# Altium footprint library PCB1.PcbLib: 33 footprints (part 2 of 3)
Each footprint in its own frame and in the unit in brackets; x right, y up, seen from the top. Pads: shape width x height; smd on the part's side, far side on the other; paste and mask are expansions set on the pad; w line width, h text height; cw(c..) or ccw(c..) is an arc to the next point about the centre after c.
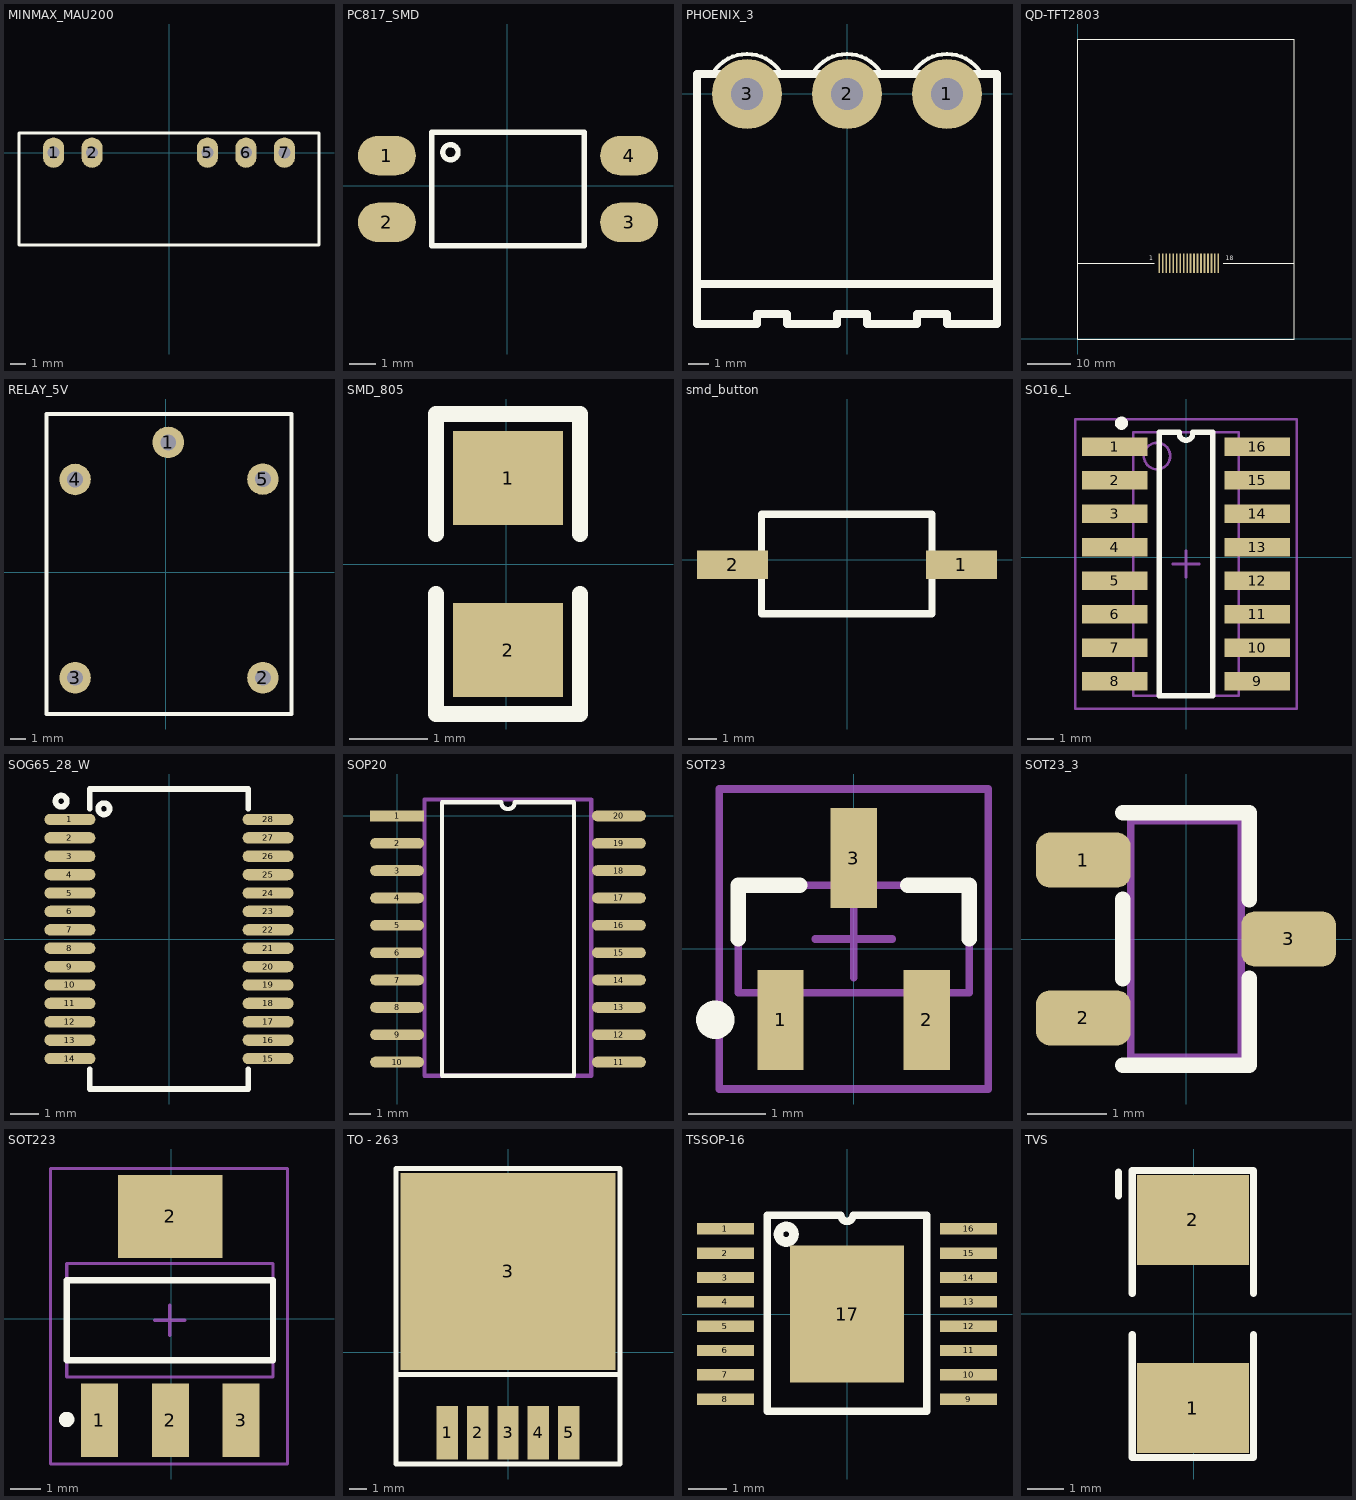
[diagram p1: the footprints below, top view; thin cyan lines are the x and y axes]

## MINMAX_MAU200 [mm] "DC-DC Module, MAU200"
pads (5):
  oval 1.4x2 hole 0.8: 1(-7.62,0) 2(-5.08,0) 5(2.54,0) 6(5.08,0) 7(7.62,0)
Top Overlay:
  lines w0.2: -9.9,-6.1 9.9,-6.1 9.9,1.3 -9.9,1.3 -9.9,-6.1
3D body "MAU200 3D Mechanical(Vin=15, 24V).stp": height 10, standoff -3.2, extent -9.75,-6 9.75,1.2

## PC817_SMD [mm]
pads (4):
  oval 2.2x1.5 smd: 1(-4.572,1.143) 2(-4.572,-1.397) 3(4.628,-1.397) 4(4.628,1.143)
Top Overlay:
  circle w0.2: c-2.159,1.27 r0.29
  lines w0.2: -2.87,-2.286 -2.87,2.032 2.921,2.032 2.921,-2.286 -2.87,-2.286
3D body "pc817x1nip1b.stp": height 3.6, standoff 0, extent -4.673,-2.54 4.927,2.06

## PHOENIX_3 [mm]
pads (3):
  round 3.5 hole 1.6: 1(5,0) 2(0,0) 3(-5,0)
Top Overlay:
  lines w0.2: -6.664,1.109 cw(c-5,0) -3.336,1.109 ; -1.664,1.109 cw(c0,0) 1.664,1.109 ; 3.336,1.109 cw(c5,0) 6.664,1.109
  lines w0.4: -7.5,-9.5 7.5,-9.5 ; -7.5,-11.5 -7.5,1 7.5,1 7.5,-11.5 5,-11.5 5,-11 3.5,-11 3.5,-11.5 1,-11.5 1,-11 -0.5,-11 -0.5,-11.5 -3,-11.5 -3,-11 -4.5,-11 -4.5,-11.5 -7.5,-11.5
3D body "1836192.stp": height 7.25, standoff -3.5, extent -7.62,-7.493 7.62,1.707

## QD-TFT2803 [mm]
pads (18):
  rect 0.4x4.5 smd: 1(18.86,17.46) 2(19.66,17.46) 3(20.46,17.46) 4(21.26,17.46) 5(22.06,17.46) 6(22.86,17.46) 7(23.66,17.46) 8(24.46,17.46) 9(25.26,17.46) 10(26.06,17.46) 11(26.86,17.46) 12(27.66,17.46) 13(28.46,17.46) 14(29.26,17.46) 15(30.06,17.46) 16(30.86,17.46) 17(31.66,17.46) 18(32.46,17.46)
Top Overlay:
  lines w0.254: 0,17.46 17.7,17.46 ; 33.636,17.46 50,17.46 ; 0,0 50,0 50,69.2 0,69.2 0,0
  text "18" at 34.163,18.161 h1.02
  text "1" at 16.51,18.161 h1.02
3D body: height 1, standoff 0, extent 44.958,50.165 44.958,50.165
3D body: height 1, standoff 0, extent 0.635,0.635 49.022,68.453

## RELAY_5V [mm]
pads (5):
  round 2 hole 1: 1(0.151,8.236) 2(6.151,-6.664) 3(-5.749,-6.664) 4(-5.749,5.89) 5(6.151,5.914)
Top Overlay:
  lines w0.254: -7.549,-8.964 7.951,-8.964 7.951,10.036 -7.549,10.036 -7.549,-8.964
3D body "nff-NF8 3D 1NO PDF.STEP": height 15.3, standoff -3.9, extent -7.496,-8.611 8.004,10.389

## SMD_805 [mm]
pads (2):
  rect 1.4x1.2 smd: 1(0.025,1.092) 2(0.025,-1.092)
Top Overlay:
  lines w0.2: -0.889,-0.381 -0.889,-1.905 0.94,-1.905 0.94,-0.381 ; -0.889,0.381 -0.889,1.905 0.94,1.905 0.94,0.381
3D body: height 1.1, standoff 0, extent -0.66,0.584 0.711,1.118
3D body: height 1.1, standoff 0, extent -0.66,-1.092 0.711,-0.584
3D body: height 1.1, standoff 0, extent -0.66,-0.584 0.711,0.584

## smd_button [mm]
pads (2):
  rect 2.5x1 smd: 1(4.013,-0.178) 2(-4.039,-0.178)
Top Overlay:
  lines w0.254: -3.023,-1.9 -3.023,1.6 2.977,1.6 2.977,-1.9 -3.023,-1.9
3D body "User Library-KFC-2Pin SMD.step": height 4.2, standoff 0, extent -4.127,-2.004 3.873,1.496

## SO16_L [mm]
pads (16):
  rect 2.5x0.7 smd: 1(-2.704,4.191) 2(-2.704,2.921) 3(-2.704,1.651) 4(-2.704,0.381) 5(-2.704,-0.889) 6(-2.704,-2.159) 7(-2.704,-3.429) 8(-2.704,-4.699) 9(2.704,-4.699) 10(2.704,-3.429) 11(2.704,-2.159) 12(2.704,-0.889) 13(2.704,0.381) 14(2.704,1.651) 15(2.704,2.921) 16(2.704,4.191)
Top Overlay:
  circle w0.25: c-2.45,5.091 r0.125
  lines w0.2: -0.253,4.722 ccw(c0,4.699) 0.253,4.722 ; -0.253,4.746 -1.016,4.746 -1.016,-5.254 1.016,-5.254 1.016,4.746 0.253,4.746
Mechanical 13:
  circle w0.1: c-1.1,3.846 r0.5
  lines w0.1: -2,-5.254 2,-5.254 2,4.746 -2,4.746 -2,-5.254
Mechanical 15:
  lines w0.1: -0.5,-0.254 0.5,-0.254 ; 0,-0.754 0,0.246 ; -4.2,-5.754 4.2,-5.754 4.2,5.246 -4.2,5.246 -4.2,-5.754
3D body: height 1.75, standoff 0, extent -2,-5.254 2,4.746

## SOG65_28_W [mm] "SOP, 28-Leads, Body 10.6x5.6mm (max), Pitch 0.65mm"
height 2
pads (28):
  oval 1.8x0.4 smd mask+0.075: 1(-3.5,4.225) 2(-3.5,3.575) 3(-3.5,2.925) 4(-3.5,2.275) 5(-3.5,1.625) 6(-3.5,0.975) 7(-3.5,0.325) 8(-3.5,-0.325) 9(-3.5,-0.975) 10(-3.5,-1.625) 11(-3.5,-2.275) 12(-3.5,-2.925) 13(-3.5,-3.575) 14(-3.5,-4.225) 15(3.5,-4.225) 16(3.5,-3.575) 17(3.5,-2.925) 18(3.5,-2.275) 19(3.5,-1.625) 20(3.5,-0.975) 21(3.5,-0.325) 22(3.5,0.325) 23(3.5,0.975) 24(3.5,1.625) 25(3.5,2.275) 26(3.5,2.925) 27(3.5,3.575) 28(3.5,4.225)
Top Overlay:
  circle w0.2: c-3.81,4.87 r0.2
  circle w0.2: c-2.3,4.6 r0.2
  lines w0.2: -2.8,-4.6 -2.8,-5.3 2.8,-5.3 2.8,-4.6 ; -2.8,4.6 -2.8,5.3 2.8,5.3 2.8,4.6
3D body "User Library-SSOP-28-FT232RL.step": height 2.16, standoff 0, extent -3.878,-5.165 3.878,5.165

## SOP20 [mm]
pads (20):
  rect 2.5x0.5 smd: 1(0,0)
  oval 2.5x0.5 smd: 2(0,-1.27) 3(0,-2.54) 4(0,-3.81) 5(0,-5.08) 6(0,-6.35) 7(0,-7.62) 8(0,-8.89) 9(0,-10.16) 10(0,-11.43) 11(10.3,-11.43) 12(10.3,-10.16) 13(10.3,-8.89) 14(10.3,-7.62) 15(10.3,-6.35) 16(10.3,-5.08) 17(10.3,-3.81) 18(10.3,-2.54) 19(10.3,-1.27) 20(10.3,0)
Top Overlay:
  lines w0.2: 2.085,-12.065 2.085,0.635 4.833,0.635 ccw(c5.15,0.635) 5.467,0.635 8.215,0.635 8.215,-12.065 2.085,-12.065
Mechanical 3:
  lines w0.2: 1.27,-12.065 1.27,0.762 9.017,0.762 9.017,-12.065 1.27,-12.065
3D body: height 1.6, standoff 0, extent 1.27,-12.065 9.017,0.762

## SOT23 [mm]
pads (3):
  rect 0.6x1.3 smd: 1(-0.95,-0.923) 2(0.95,-0.923) 3(0,1.177)
Top Overlay:
  circle w0.25: c-1.8,-0.923 r0.125
  lines w0.2: -1.5,0.127 -1.5,0.827 -0.7,0.827 ; 0.7,0.827 1.5,0.827 1.5,0.127
Mechanical 13:
  lines w0.1: -1.5,-0.573 1.5,-0.573 1.5,0.827 -1.5,0.827 -1.5,-0.573
Mechanical 15:
  lines w0.1: -0.5,0.127 0.5,0.127 ; 0,-0.373 0,0.627 ; -1.75,-1.823 1.75,-1.823 1.75,2.077 -1.75,2.077 -1.75,-1.823

## SOT23_3 [mm] "SOT-23, Micro3, MO-178, TO-236AB, MO-193C, SuperSOT3, SC-59, 1.5x3mm, Pitch 1.9mm"
height 2
pads (3):
  rrect50% 1.2x0.7 smd mask+0.1: 1(-1.3,1) 2(-1.3,-1) 3(1.3,0)
Top Overlay:
  lines w0.2: -0.8,-1.6 0.8,-1.6 0.8,-0.5 ; -0.8,-0.5 -0.8,0.5 ; -0.8,1.6 0.8,1.6 0.8,0.5
Mechanical 13:
  lines w0.1: -0.7,-1.5 0.7,-1.5 0.7,1.5 -0.7,1.5 -0.7,-1.5
3D body "User Library-SOT23-2.STEP": height 1.08, standoff 0, extent -1.32,-1.5 1.32,1.5

## SOT223 [mm]
pads (4):
  rect 1.2x2.4 smd: 1(-2.337,-3.302) 2(-0.034,-3.302) 3(2.265,-3.302)
  rect 3.4x2.7 smd: 2(-0.034,3.327)
Top Overlay:
  circle w0.25: c-3.402,-3.277 r0.125
  lines w0.2: -3.401,-1.351 3.299,-1.351 3.299,1.249 -3.401,1.249 -3.401,-1.351
Mechanical 13:
  lines w0.1: -3.401,-1.901 3.299,-1.901 3.299,1.799 -3.401,1.799 -3.401,-1.901
Mechanical 15:
  lines w0.1: -0.551,-0.051 0.449,-0.051 ; -0.051,-0.551 -0.051,0.449 ; -3.926,-4.724 -3.926,4.876 3.774,4.876 3.774,-4.724 -3.926,-4.724
3D body "AMS1117-3.3--3DModel-STEP-56544.STEP": height 1.76, standoff -0.05, extent -3.302,-3.88 3.2,3.118

## TO - 263 [mm]
pads (6):
  rect 1.2x3 smd: 1(-3.4,-4.5) 2(-1.7,-4.5) 3(0,-4.5) 4(1.7,-4.5) 5(3.4,-4.5)
  rect 12x11 smd: 3(0,4.5)
Top Overlay:
  lines w0.3: -6.25,-1.25 6.25,-1.25 ; -6.25,-6.25 -6.25,10.25 6.25,10.25 6.25,-6.25 -6.25,-6.25
3D body "User Library-TO-263-5.STEP": height 4.56, standoff 0, extent -5.08,-5.2 5.08,8.815

## TSSOP-16 [mm]
pads (17):
  rect 1.5x0.3 smd: 1(-3.2,2.24) 2(-3.2,1.6) 3(-3.2,0.96) 4(-3.2,0.32) 5(-3.2,-0.32) 6(-3.2,-0.96) 7(-3.2,-1.6) 8(-3.2,-2.24) 9(3.2,-2.24) 10(3.2,-1.6) 11(3.2,-0.96) 12(3.2,-0.32) 13(3.2,0.32) 14(3.2,0.96) 15(3.2,1.6) 16(3.2,2.24)
  rect 3x3.6 smd: 17(0,0)
Top Overlay:
  circle w0.254: c-1.6,2.1 r0.204
  lines w0.2: -2.1,-2.56 2.1,-2.56 2.1,2.605 0.163,2.605 cw(c0,2.605) -0.162,2.605 -2.1,2.605 -2.1,-2.56
3D body "User Library-TSSOP-16-1.STEP": height 1.1, standoff 0, extent -3.2,-2.5 3.2,2.5

## TVS [mm]
pads (2):
  rect 3.1x2.5 smd: 1(-0.025,-2.616) 2(-0.025,2.591)
Top Overlay:
  lines w0.2: -2.083,3.251 -2.083,3.912 ; -1.702,-0.584 -1.702,-3.988 1.651,-3.988 1.651,-0.584 ; -1.702,0.559 -1.702,3.962 1.651,3.962 1.651,0.559
3D body: height 2.23, standoff 0, extent -1.502,1.803 1.422,2.007
3D body: height 2.2, standoff 0, extent -1.499,-2.54 1.421,2.515
3D body: height 1.5, standoff 0, extent -1.016,-2.756 0.965,-2.527
3D body: height 1.5, standoff 0, extent -1.016,2.515 0.965,2.743